# Altium schematic symbol library Schlib1LTC3300.SchLib: 2 symbols
Pins are listed as number, name and electrical type; pins without a type are passive.

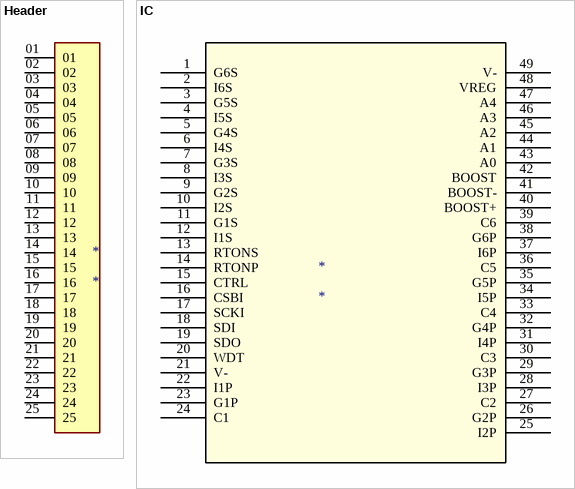
[diagram p0: symbols Header to IC]

## Header
designator *
footprint SAMTEC_TS-125-G-A
pins: 01, 02, 03, 04, 05, 06, 07, 08, 09, 10, 11, 12, 13, 14, 15, 16, 17, 18, 19, 20, 21, 22, 23, 24, 25

## IC
designator *
footprint LQFP-48_LXE_LIT
pins: 1 G6S, 2 I6S, 3 G5S, 4 I5S, 5 G4S, 6 I4S, 7 G3S, 8 I3S, 9 G2S, 10 I2S, 11 G1S, 12 I1S, 13 RTONS, 14 RTONP, 15 CTRL, 16 CSBI, 17 SCKI, 18 SDI, 19 SDO, 20 WDT, 21 V- (power), 22 I1P, 23 G1P, 24 C1, 25 I2P, 26 G2P, 27 C2, 28 I3P, 29 G3P, 30 C3, 31 I4P, 32 G4P, 33 C4, 34 I5P, 35 G5P, 36 C5, 37 I6P, 38 G6P, 39 C6, 40 BOOST+, 41 BOOST-, 42 BOOST, 43 A0, 44 A1, 45 A2, 46 A3, 47 A4, 48 VREG, 49 V- (power)